# EAGLE library part S-SMP (library snes_mb)
Sony SPC700 Sound Processor
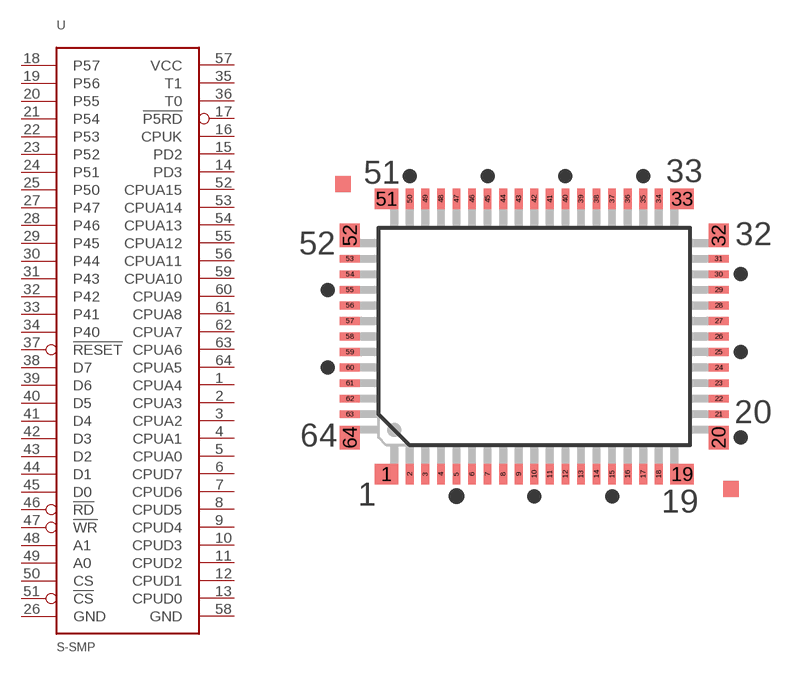
[diagram p6: symbol with the pads of 64QFP1.00; footprint 64QFP1.00]

Designator prefix U

## S-SMP  [64QFP1.00]
1  CPUA4
2  CPUA3
3  CPUA2
4  CPUA1
5  CPUA0
6  CPUD7
7  CPUD6
8  CPUD5
9  CPUD4
10  CPUD3
11  CPUD2
12  CPUD1
13  CPUD0
14  PD3
15  PD2
16  CPUK
17  !P5RD
18  P57
19  P56
20  P55
21  P54
22  P53
23  P52
24  P51
25  P50
26  GND  pwr
27  P47
28  P46
29  P45
30  P44
31  P43
32  P42
33  P41
34  P40
35  T1
36  T0
37  !RESET
38  D7
39  D6
40  D5
41  D4
42  D3
43  D2
44  D1
45  D0
46  !RD
47  !WR
48  A1
49  A0
50  CS
51  !CS
52  CPUA15
53  CPUA14
54  CPUA13
55  CPUA12
56  CPUA11
57  VCC  pwr
58  GND  pwr
59  CPUA10
60  CPUA9
61  CPUA8
62  CPUA7
63  CPUA6
64  CPUA5

## Footprint 64QFP1.00 (pad centres in mm)
smd 1.5 x 1.3: 1 -9.5,-8.85; 19 9.5,-8.85; 33 9.5,8.85; 51 -9.5,8.85
smd 0.5 x 1.3: 2 -8,-8.85; 3 -7,-8.85; 4 -6,-8.85; 5 -5,-8.85; 6 -4,-8.85; 7 -3,-8.85; 8 -2,-8.85; 9 -1,-8.85; 10 0,-8.85; 11 1,-8.85; 12 2,-8.85; 13 3,-8.85; 14 4,-8.85; 15 5,-8.85; 16 6,-8.85; 17 7,-8.85; 18 8,-8.85; 34 8,8.85; 35 7,8.85; 36 6,8.85; 37 5,8.85; 38 4,8.85; 39 3,8.85; 40 2,8.85; 41 1,8.85; 42 0,8.85; 43 -1,8.85; 44 -2,8.85; 45 -3,8.85; 46 -4,8.85; 47 -5,8.85; 48 -6,8.85; 49 -7,8.85; 50 -8,8.85
smd 1.3 x 1.5: 20 11.85,-6.5; 32 11.85,6.5; 52 -11.85,6.5; 64 -11.85,-6.5
smd 1.3 x 0.5: 21 11.85,-5; 22 11.85,-4; 23 11.85,-3; 24 11.85,-2; 25 11.85,-1; 26 11.85,0; 27 11.85,1; 28 11.85,2; 29 11.85,3; 30 11.85,4; 31 11.85,5; 53 -11.85,5; 54 -11.85,4; 55 -11.85,3; 56 -11.85,2; 57 -11.85,1; 58 -11.85,0; 59 -11.85,-1; 60 -11.85,-2; 61 -11.85,-3; 62 -11.85,-4; 63 -11.85,-5